# Altium schematic symbol library Capacitor.SchLib: 9 symbols
Pins are listed as number, name and electrical type; pins without a type are passive.

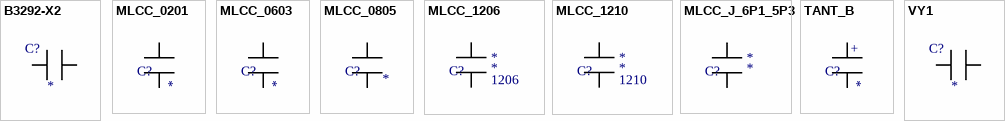
[diagram p0: symbols B3292-X2 to VY1]

## B3292-X2
designator C?
Film Capacitor Polypropylene (PP); Manufacturer 1: *; Manufacturer Part Number 1: *; Value: *
footprint B32922C3474M000 (0.47 µF Film Capacitor 305V 630V Polypropylene (PP) Radial)
pins: 1, 2

## MLCC_0201
designator C?, comment ERP_102-1  (value not drawn)
Chip Capacitor, 2-Leads, Body 0.60x0.30mm, IPC High Density; Package: 0201; Manufacturer 1: *; Manufacturer Part Number 1: *; Value: *
footprint CAPC0603X03L (Chip Capacitor, 2-Leads, Body 0.60x0.30mm, IPC High Density)
pins: 1, 2

## MLCC_0603
designator C?, comment ERP_102-1  (value not drawn)
Chip Capacitor, 2-Leads, Body 1.60x0.80mm, IPC Medium Density; Package: 0603; Manufacturer 1: *; Manufacturer Part Number 1: *; Value: *
footprint CAPC1608X10N (Chip Capacitor, 2-Leads, Body 1.60x0.80mm, IPC Medium Density)
pins: 1, 2

## MLCC_0805
designator C?
Chip Capacitor, 2-Leads, Body 2.00x1.25mm, IPC High Density; Package: 0805; Manufacturer 1: *; Manufacturer Part Number 1: *; Value: *
footprint CAPC2012X13L (Chip Capacitor, 2-Leads, Body 2.00x1.25mm, IPC High Density)
pins: 1, 2

## MLCC_1206
designator C?  Package: 1206
MLCC 1206 (3216 Metric); Manufacturer 1: *; Manufacturer Part Number 1: *; Voltage: *; Value: *
footprint CAP1206 (MLCC 1206 (3216 Metric))
pins: 1, 2

## MLCC_1210
designator C?  Package: 1210
MLCC 1210 (3225 Metric); Manufacturer 1: *; Manufacturer Part Number 1: *; Supplier 1: JLCPCB; Supplier Part Number 1: *; Voltage: *; Value: *
footprint CAP1210 (MLCC 1210 (3225 Metric))
pins: 1, 2

## MLCC_J_6P1_5P3
designator C?
Ceramic Capacitor X7R Stacked SMD, 2 J-Lead; Manufacturer 1: *; Manufacturer Part Number 1: *; Package: 1206; Voltage: *; Value: *
footprint MLCC_J_6P1_5P3 (Ceramic Capacitor X7R Stacked SMD, 2 J-Lead)
pins: 1, 2

## TANT_B
designator C?
Molded Capacitor, 2-Leads, Body 3.50x2.80mm, IPC High Density; Package: B; Manufacturer 1: *; Manufacturer Part Number 1: *; Value: *
footprint CAPMP3528X21L (Molded Capacitor, 2-Leads, Body 3.50x2.80mm, IPC High Density)
pins: 1, 2
text: +

## VY1
designator C?
Ceramic Capacitor Y5U (E) Radial, Disc; Manufacturer 1: *; Manufacturer Part Number 1: *; Value: *
footprint VY1222M43Y5UC63V0 (2200 pF ±20% 760VAC Ceramic Capacitor Y5U (E) Radial, Disc)
pins: 1, 2